# EAGLE library part MAX3250 (library Maxim)
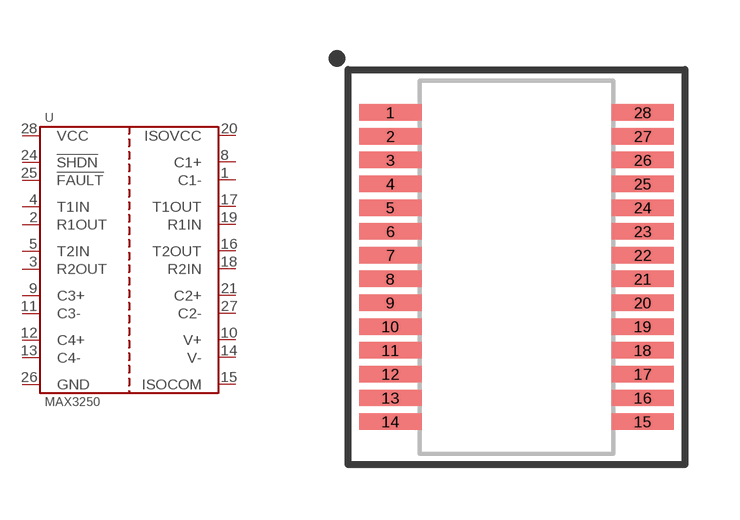
[diagram p6: symbol with the pads of SSOP-28; footprint SSOP-28]

Designator prefix U

## MAX3250CAI+  [SSOP-28]
1  C1-
2  R1OUT
3  R2OUT
4  T1IN
5  T2IN
8  C1+
9  C3+
10  V+
11  C3-
12  C4+
13  C4-
14  V-
15  ISOCOM
16  T2OUT
17  T1OUT
18  R2IN
19  R1IN
20  ISOVCC
21  C2+
24  !SHDN
25  !FAULT
26  GND
27  C2-
28  VCC

## Footprint SSOP-28 (pad centres in mm)
smd 1.7 x 0.45: 1 -3.445,4.225; 2 -3.445,3.575; 3 -3.445,2.925; 4 -3.445,2.275; 5 -3.445,1.625; 6 -3.445,0.975; 7 -3.445,0.325; 8 -3.445,-0.325; 9 -3.445,-0.975; 10 -3.445,-1.625; 11 -3.445,-2.275; 12 -3.445,-2.925; 13 -3.445,-3.575; 14 -3.445,-4.225; 15 3.445,-4.225; 16 3.445,-3.575; 17 3.445,-2.925; 18 3.445,-2.275; 19 3.445,-1.625; 20 3.445,-0.975; 21 3.445,-0.325; 22 3.445,0.325; 23 3.445,0.975; 24 3.445,1.625; 25 3.445,2.275; 26 3.445,2.925; 27 3.445,3.575; 28 3.445,4.225